# Altium schematic symbol library Pad 2mm.Schlib: 1 symbol
Pins are listed as number, name and electrical type; pins without a type are passive.

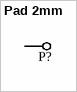
[diagram p0: symbol Pad 2mm]

## Pad 2mm
designator P?, comment Pad  (value not drawn)  (no BOM)
Test Pad
footprint Pad 2mm
pins: 1